# EAGLE library part CY62128B (library 68komputer)
1-Mbit (128K x 8) Static RAM Datasheet <https://www.westfloridacomponents.com/mm5/graphics/H02/CY62128BLL-55SCT.pdf>
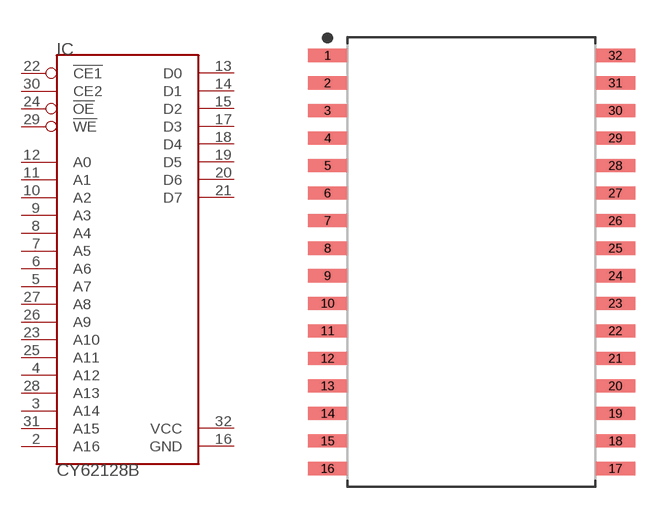
[diagram p15: symbol with the pads of SOIC127P1412X299-32N; footprint SOIC127P1412X299-32N]

Designator prefix IC

## CY62128BSOIC32-450  [SOIC127P1412X299-32N]
2  A16  in
3  A14  in
4  A12  in
5  A7  in
6  A6  in
7  A5  in
8  A4  in
9  A3  in
10  A2  in
11  A1  in
12  A0  in
13  D0
14  D1
15  D2
16  GND  pwr
17  D3
18  D4
19  D5
20  D6
21  D7
22  !CE1  in
23  A10  in
24  !OE  in
25  A11  in
26  A9  in
27  A8  in
28  A13  in
29  !WE  in
30  CE2  in
31  A15  in
32  VCC  pwr

## Footprint SOIC127P1412X299-32N (pad centres in mm)
32-SOIC, 1.27 mm pitch, 14.12 mm span, 20.45 X 11.30 X 3.00 mm body 32-pin SOIC package with 1.27 mm pitch, 14.12 mm span with body size 20.45 X 11.30 X 3.00 mm
smd 1.816 x 0.605: 1 -6.636,9.525; 2 -6.636,8.255; 3 -6.636,6.985; 4 -6.636,5.715; 5 -6.636,4.445; 6 -6.636,3.175; 7 -6.636,1.905; 8 -6.636,0.635; 9 -6.636,-0.635; 10 -6.636,-1.905; 11 -6.636,-3.175; 12 -6.636,-4.445; 13 -6.636,-5.715; 14 -6.636,-6.985; 15 -6.636,-8.255; 16 -6.636,-9.525; 17 6.636,-9.525; 18 6.636,-8.255; 19 6.636,-6.985; 20 6.636,-5.715; 21 6.636,-4.445; 22 6.636,-3.175; 23 6.636,-1.905; 24 6.636,-0.635; 25 6.636,0.635; 26 6.636,1.905; 27 6.636,3.175; 28 6.636,4.445; 29 6.636,5.715; 30 6.636,6.985; 31 6.636,8.255; 32 6.636,9.525